# Altium footprint library 信号层.PcbLib: 14 footprints
Each footprint in its own frame and in the unit in brackets; x right, y up, seen from the top. Pads: shape width x height; smd on the part's side, far side on the other; paste and mask are expansions set on the pad; w line width, h text height; cw(c..) or ccw(c..) is an arc to the next point about the centre after c.
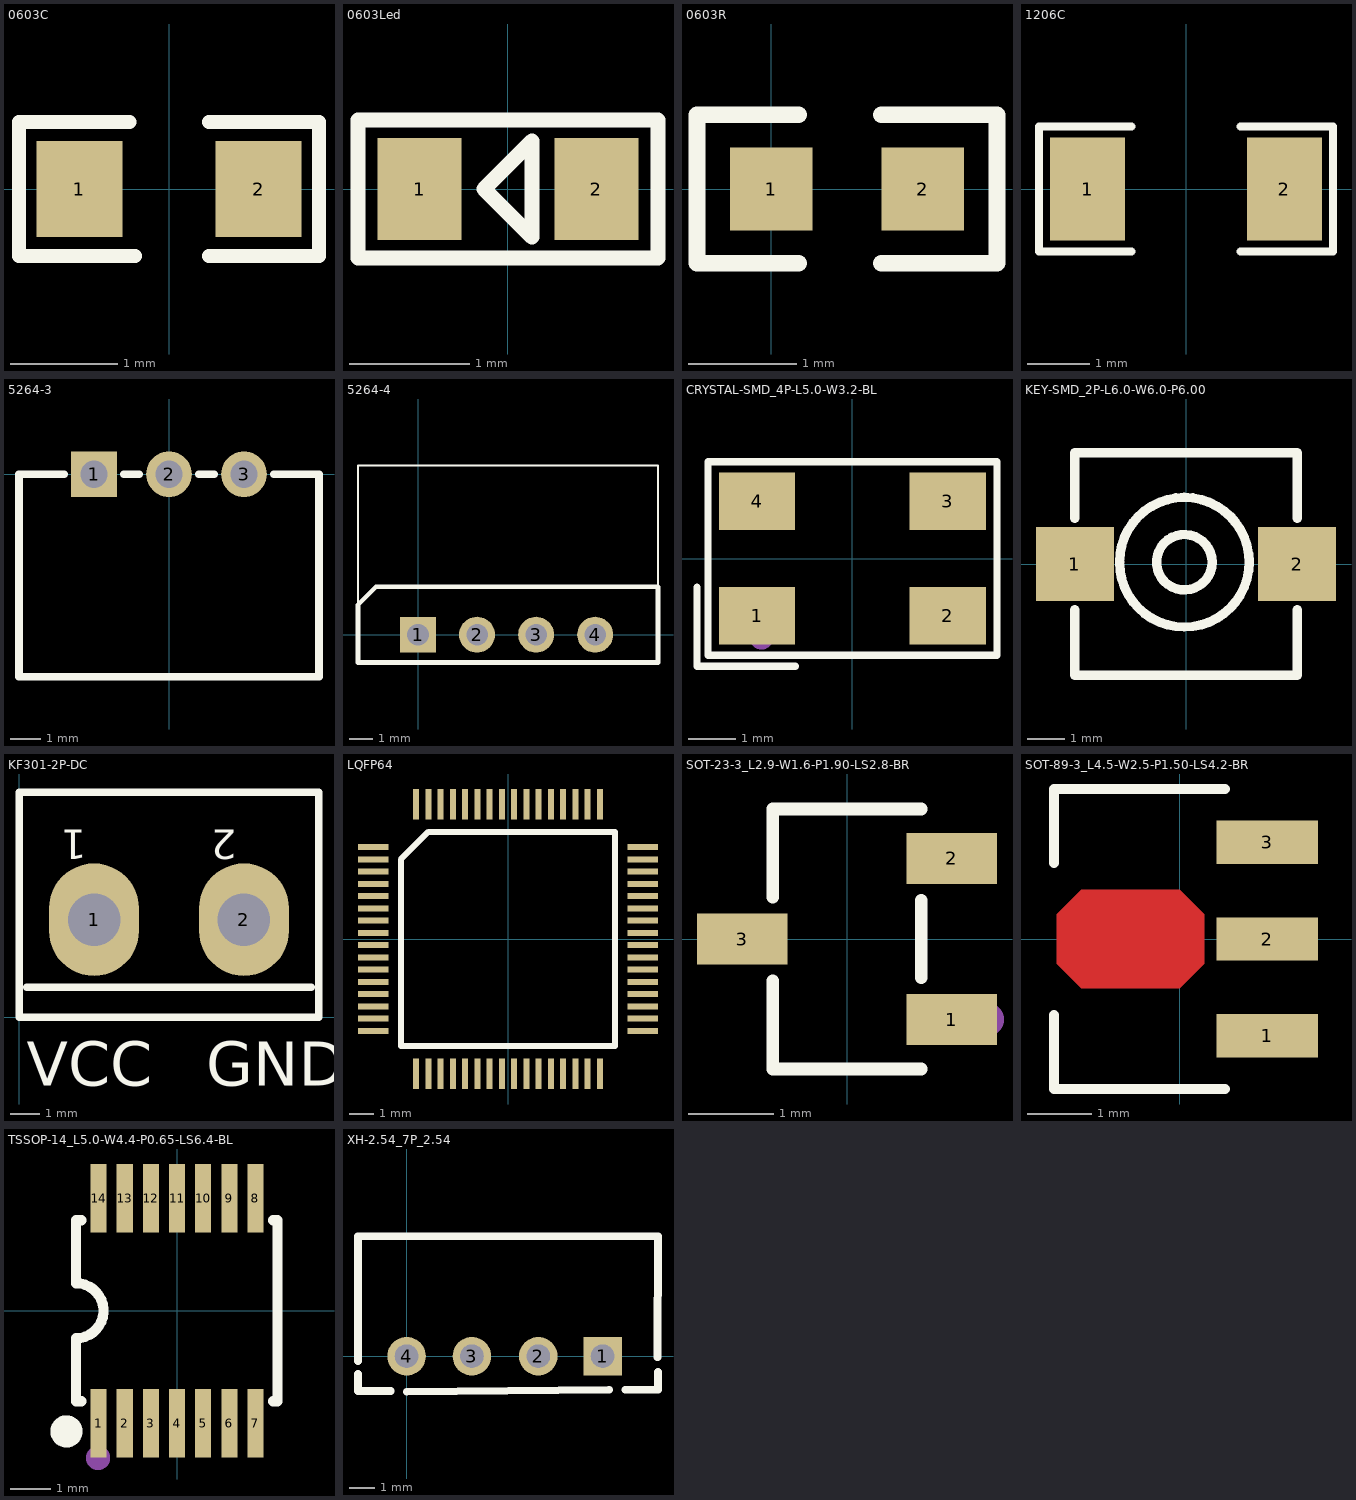
[diagram p0: the footprints below, top view; thin cyan lines are the x and y axes]

## 0603C [mm] "0603贴片"
pads (2):
  rect 0.8x0.9 smd: 1(-0.836,0) 2(0.836,0)
Top Overlay:
  lines w0.127: -0.366,0.625 -1.4,0.625 -1.4,-0.625 -0.316,-0.625 ; 0.37,-0.625 1.4,-0.625 1.4,0.625 0.37,0.625
3D body "0603C.STEP": height 0.73, standoff 0.02, extent -0.8,-0.4 0.8,0.4

## 0603Led [mm] "0603贴?"
height 1
pads (2):
  rect 0.7x0.85 smd: 1(-0.736,0) 2(0.736,0)
Top Overlay:
  lines w0.127: 0.2,-0.4 -0.2,0 0.2,0.4 0.2,-0.375 ; -1.25,-0.575 -1.25,0.575 0.27,0.575 1.25,0.575 1.25,-0.575 0.27,-0.575 -1.25,-0.575
3D body "LED0603.STEP": height 0.62, standoff 0.02, extent -0.81,-0.4 0.81,0.4

## 0603R [mil] "0603贴片"
pads (2):
  rect 30x30 smd: 1(0,0) 2(55,0)
Top Overlay:
  lines w6: 10,-27 -27,-27 -27,27 10,27 ; 40,-27 82,-27 82,27 40,27
3D body "User Library-RESC1608X05N.step": height 17.76, standoff 0, extent -3.52,-17.74 57.51,15.73

## 1206C [mm] "1206贴片"
pads (2):
  rect 1.2x1.65 smd: 1(-1.575,0) 2(1.575,0)
Top Overlay:
  lines w0.127: -0.875,-1 -2.35,-1 -2.35,1 -0.875,1 ; 0.875,-1 2.35,-1 2.35,1 0.875,1
3D body "1206C.STEP": height 1.57, standoff 0.06, extent -1.6,-0.8 1.6,0.8

## 5264-3 [mil]
pads (3):
  rect 60x60 hole 36: 1(-98.42,0)
  round 60 hole 36: 2(0,0) 3(98.42,0)
Top Overlay:
  lines w10: -137.53,0 -196.85,0 -196.85,-265.75 196.85,-265.75 196.85,0 137.53,0 ; -59.33,0 -39.1,0 ; 39.1,0 59.33,0

## 5264-4 [mil]
pads (4):
  rect 60x59.05 hole 36: 1(0,0)
  round 60 hole 36: 2(98.43,0) 3(196.85,0) 4(295.28,0)
Top Overlay:
  lines w3.94: -100,50 -100,281.89 400,281.89 400,80
  lines w7.87: -100,-46.26 400,-46.26 400,80 -70,80 -100,50 -100,-46.26
3D body "5264-4-弯.STEP": height 197.45, standoff -78.14, extent -101.38,-15.75 390.75,283.26

## CRYSTAL-SMD_4P-L5.0-W3.2-BL [mm]
pads (4):
  rect 1.6x1.2 smd: 1(-2,-1.2) 2(2,-1.2) 3(2,1.2) 4(-2,1.2)
Top Overlay:
  lines w0.152: -3.257,-0.6 -3.257,-2.257 -1.2,-2.257 ; -3.029,-2.029 3.029,-2.029 3.029,2.029 -3.029,2.029 -3.029,-2.029
Mechanical 15:
  circle w0.254: c-1.905,-1.651 r0.127

## KEY-SMD_2P-L6.0-W6.0-P6.00 [mm]
pads (2):
  rect 2.1x2 smd: 1(-3,0) 2(3,0)
Top Overlay:
  circle w0.254: c-0.044,0.048 r1.75
  circle w0.254: c-0.044,0.048 r0.749
  lines w0.254: -3,-1.231 -3,-3 3,-3 3,-1.231 ; -3,1.231 -3,3 3,3 3,1.231

## KF301-2P-DC [mil]
pads (2):
  oval 120x150 hole 70: 1(100,130) 2(300,130)
Top Overlay:
  lines w10: 10,40 390,40 ; 0,0 0,300 400,300 400,0 0,0
  text "1" at 90,249.69 h39.37
  text "2" at 290,249.69 h39.37
  text "VCC" at 10,-91.73 h59.05
  text "GND" at 250,-91.73 h59.05

## LQFP64 [mil]
pads (64):
  rect 50x10 smd: 1(-220,150) 2(-220,130) 3(-220,110) 4(-220,90) 5(-220,70) 6(-220,50) 7(-220,30) 8(-220,10) 9(-220,-10) 10(-220,-30) 11(-220,-50) 12(-220,-70) 13(-220,-90) 14(-220,-110) 15(-220,-130) 16(-220,-150) 33(220,-150) 34(220,-130) 35(220,-110) 36(220,-90) 37(220,-70) 38(220,-50) 39(220,-30) 40(220,-10) 41(220,10) 42(220,30) 43(220,50) 44(220,70) 45(220,90) 46(220,110) 47(220,130) 48(220,150)
  rect 10x50 smd: 17(-150,-220) 18(-130,-220) 19(-110,-220) 20(-90,-220) 21(-70,-220) 22(-50,-220) 23(-30,-220) 24(-10,-220) 25(10,-220) 26(30,-220) 27(50,-220) 28(70,-220) 29(90,-220) 30(110,-220) 31(130,-220) 32(150,-220) 49(150,220) 50(130,220) 51(110,220) 52(90,220) 53(70,220) 54(50,220) 55(30,220) 56(10,220) 57(-10,220) 58(-30,220) 59(-50,220) 60(-70,220) 61(-90,220) 62(-110,220) 63(-130,220) 64(-150,220)
Top Overlay:
  lines w10: -175,-175 175,-175 175,175 -130,175 -175,130 -175,-175

## SOT-23-3_L2.9-W1.6-P1.90-LS2.8-BR [mm]
pads (3):
  rect 1.07x0.6 smd: 1(1.235,-0.95) 2(1.235,0.95) 3(-1.235,0)
Top Overlay:
  lines w0.152: -0.876,-0.495 -0.876,-1.536 0.876,-1.536 ; -0.876,0.495 -0.876,1.536 0.876,1.536 ; 0.876,-0.455 0.876,0.455
Mechanical 15:
  circle w0.2: c1.651,-0.95 r0.1

## SOT-89-3_L4.5-W2.5-P1.50-LS4.2-BR [mm]
pads (3):
  rect 1.575x0.672 smd: 1(1.356,-1.5) 2(1.356,0) 3(1.356,1.5)
Top Layer:
  region: 0.381,0.381 0,0.762 -1.524,0.762 -1.905,0.381 -1.905,-0.381 -1.524,-0.762 0,-0.762 0.381,-0.381
Top Overlay:
  lines w0.152: -1.95,-1.177 -1.95,-2.326 0.702,-2.326 ; -1.95,1.177 -1.95,2.326 0.702,2.326
Mechanical 15:
  circle w0.3: c1.715,-1.5 r0.15

## TSSOP-14_L5.0-W4.4-P0.65-LS6.4-BL [mm]
pads (14):
  rect 0.4x1.7 smd: 1(-1.95,-2.8) 2(-1.3,-2.8) 3(-0.65,-2.8) 4(0,-2.8) 5(0.65,-2.8) 6(1.3,-2.8) 7(1.95,-2.8) 8(1.95,2.8) 9(1.3,2.8) 10(0.65,2.8) 11(0,2.8) 12(-0.65,2.8) 13(-1.3,2.8) 14(-1.95,2.8)
Top Overlay:
  circle w0.4: c-2.75,-3 r0.2
  lines w0.254: -2.515,-2.25 -2.515,-1.6 -2.515,-0.686 ccw(c-2.515,0) -2.515,0.686 -2.515,1.6 -2.515,2.25 ; -2.5,-2.25 -2.384,-2.25 ; -2.5,2.25 -2.384,2.25 ; 2.384,-2.25 2.5,-2.25 2.5,2.25 2.384,2.25
Mechanical 15:
  circle w0.3: c-1.964,-3.662 r0.15

## XH-2.54_7P_2.54 [mil]
pads (4):
  rect 59.05x59.05 hole 35.44 slot 35.64 at 0 deg: 1(300,0)
  round 59.06 hole 35.44 slot 35.64 at 0 deg: 2(201.55,0) 3(99.95,0) 4(-0.05,0)
Top Overlay:
  lines w11.81: -74.41,-27.28 -74.41,-53.24 -24.41,-53.24 -24.41,-53.28 ; -74.41,-7.44 -74.41,183.54 384.75,183.54 384.13,-1.81 ; 0,-54.57 309.73,-51.42 ; 334.53,-51.42 384.62,-51.42 384.62,-24.42